# EAGLE library part ULN2003 (library ds_ic_peripherals)
The ULN2003 is high-voltage high-current Darlington transistor arrays each containing seven open collector common emitter pairs. Each pair is rated at 500mA.
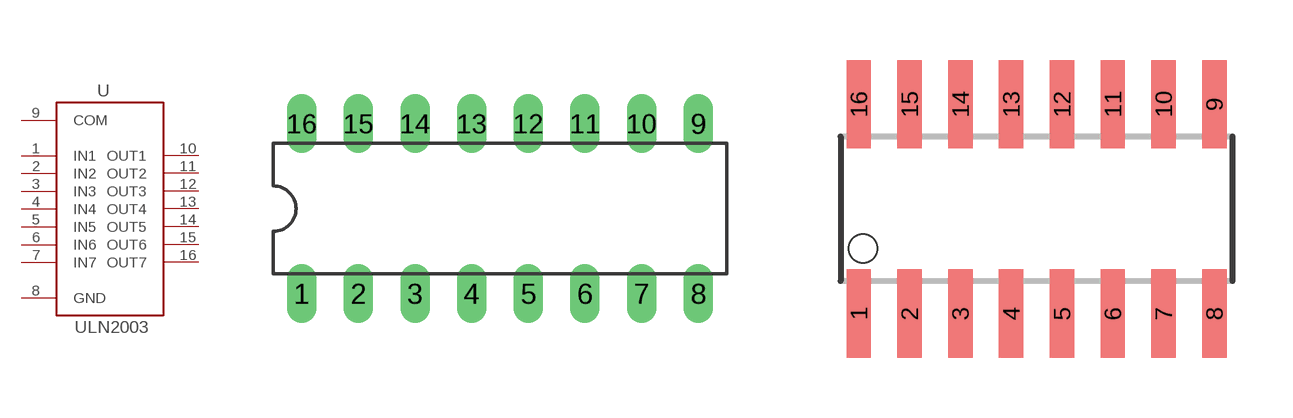
[diagram p74: symbol with the pads of DIP16; footprints DIP16, SO16]

Designator prefix -

## ULN2003A  [DIP16]
1  IN1
2  IN2
3  IN3
4  IN4
5  IN5
6  IN6
7  IN7
8  GND
9  COM
10  OUT1
11  OUT2
12  OUT3
13  OUT4
14  OUT5
15  OUT6
16  OUT7

## ULN20033D1013TR  [SO16]
Pads as for DIP16

## Footprint DIP16 (pad centres in mm)
drill 0.813 long: 1 -8.89,-3.81; 2 -6.35,-3.81; 3 -3.81,-3.81; 4 -1.27,-3.81; 5 1.27,-3.81; 6 3.81,-3.81; 7 6.35,-3.81; 8 8.89,-3.81; 9 8.89,3.81; 10 6.35,3.81; 11 3.81,3.81; 12 1.27,3.81; 13 -1.27,3.81; 14 -3.81,3.81; 15 -6.35,3.81; 16 -8.89,3.81

## Footprint SO16 (pad centres in mm)
smd 0.61 x 2.21: 1 -4.445,-2.616; 2 -3.175,-2.616; 3 -1.905,-2.616; 4 -0.635,-2.616; 5 0.635,-2.616; 6 1.905,-2.616; 7 3.175,-2.616; 8 4.445,-2.616; 9 4.445,2.616; 10 3.175,2.616; 11 1.905,2.616; 12 0.635,2.616; 13 -0.635,2.616; 14 -1.905,2.616; 15 -3.175,2.616; 16 -4.445,2.616